# Altium integrated library National Semiconductor Switcher.IntLib: 2226 symbols (part 2 of 59)
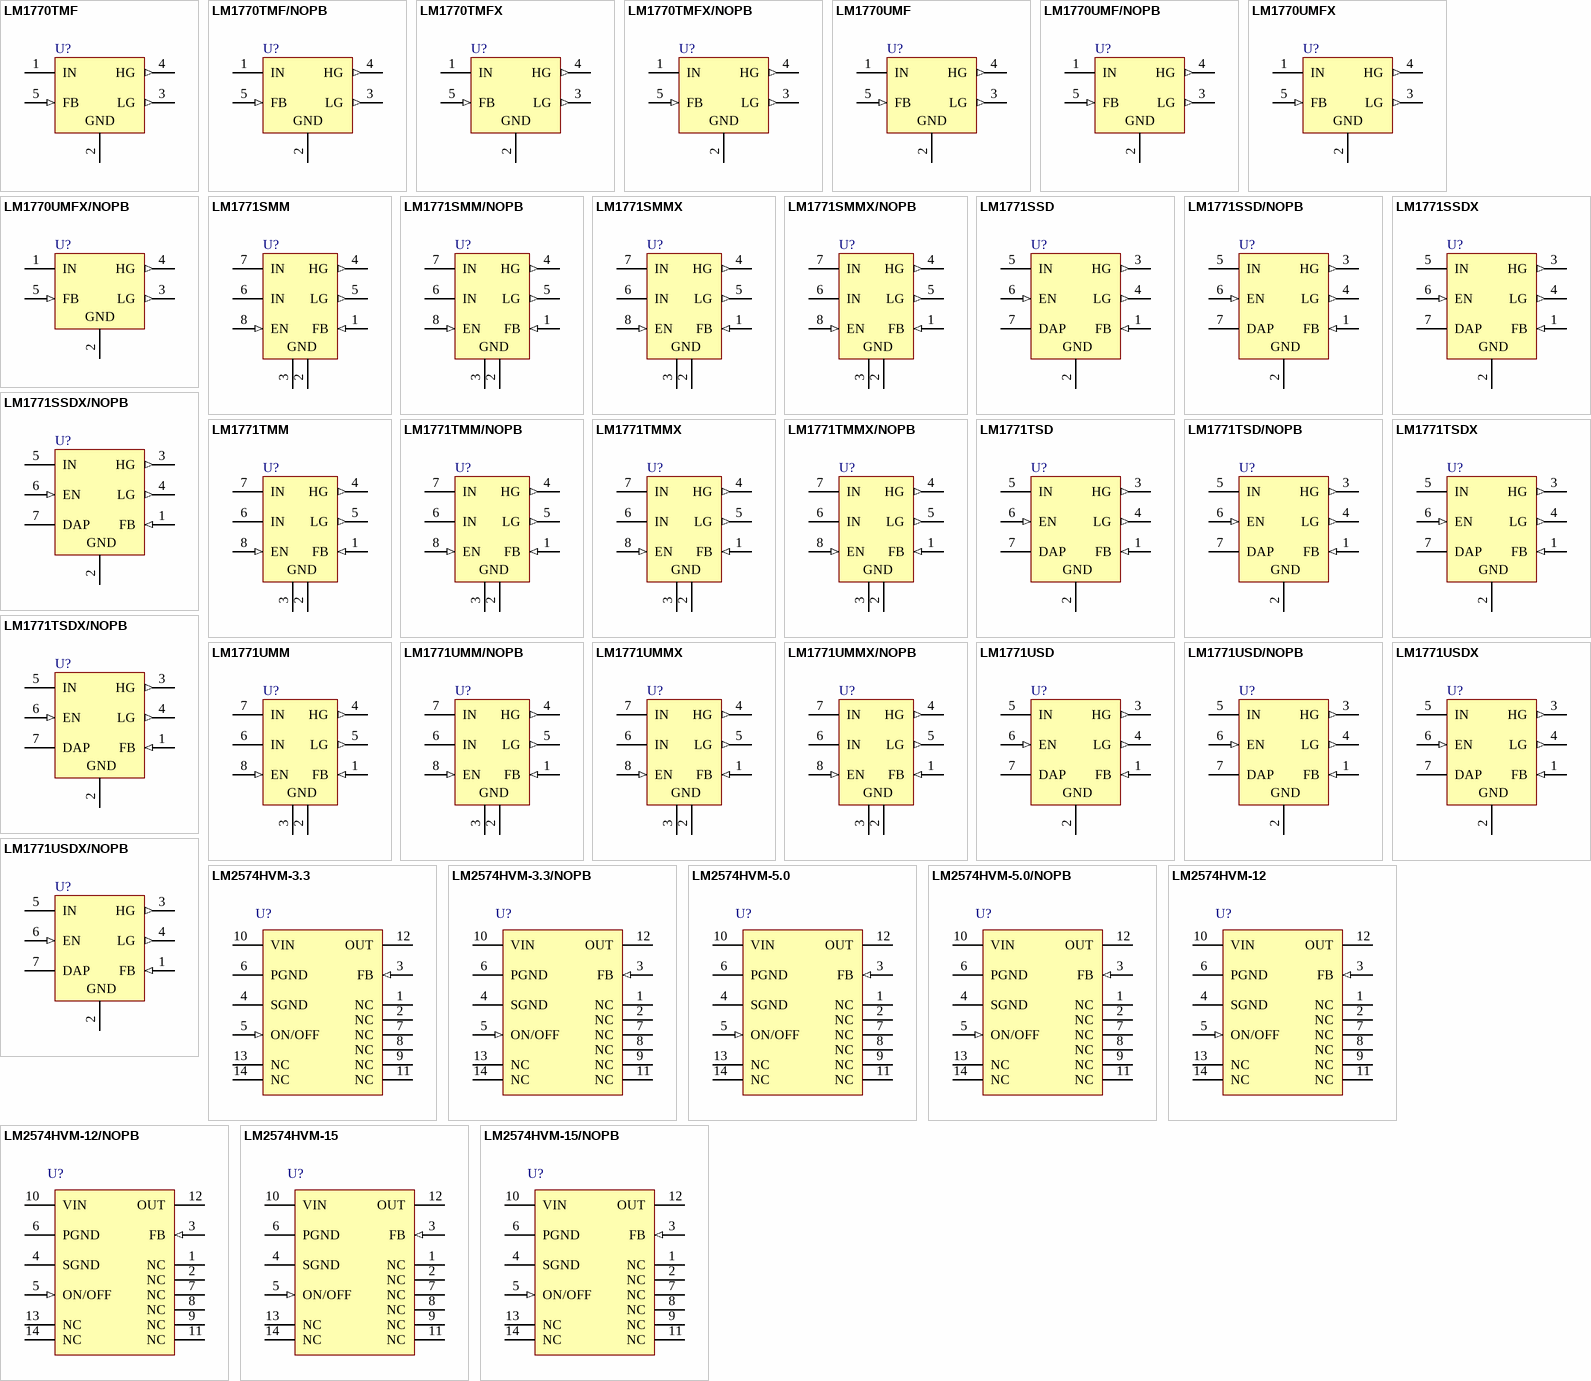
[diagram p70: symbols LM1770TMF to LM2574HVM-15/NOPB]

## LM2574HVM-15/NOPB
designator U?
SIMPLE SWITCHER® 0.5A Step-Down Voltage Regulator, 14-pin Wide SOIC, Pb-Free; PartNumber: LM2574HVM-15/NOPB; Manufacturer: National Semiconductor; PackageTopMarking: NSUZXYTTE#*LM2574HVM*-15 P+; PowerWise: N; High-Reliability: Y; DatasheetVersion: Jun-1999; PackageVersion: revD, Feb-1987; PackageReference: M14B; PackageDescription: Molded Package, S.O., .300in Wide, 14 Lead; RoHS: Y; PinCount: 14; CompType: Switcher; Code_JEDEC: MS-013-AF; Code_IPC: SOIC127P1030-14; ComponentLink1Description: Manufacturer URL; ComponentLink1URL: http://www.national.com/; ComponentLink2Description: LM2574HV Datasheet; ComponentLink2URL: http://www.national.com/ds/LM/LM2574HV.pdf; ComponentLink3Description: LM2574HV Web Page; ComponentLink3URL: http://www.national.com/pf/LM/LM2574HV.html; ComponentLink4Description: M14B Package Page; ComponentLink4URL: http://www.national.com/packaging/folders/m14b.html
footprint M14B_N (SOIC, 14-Leads, Body 9x7.5mm, Pitch 1.27mm, IPC Medium Density)
footprint M14B_L (SOIC, 14-Leads, Body 9x7.5mm, Pitch 1.27mm, IPC High Density)
footprint M14B_M (SOIC, 14-Leads, Body 9x7.5mm, Pitch 1.27mm, IPC Low Density)
pins: 1 NC, 2 NC, 3 FB (in), 4 SGND (power), 5 ON/OFF (in), 6 PGND (power), 7 NC, 8 NC, 9 NC, 10 VIN (power), 11 NC, 12 OUT (power), 13 NC, 14 NC

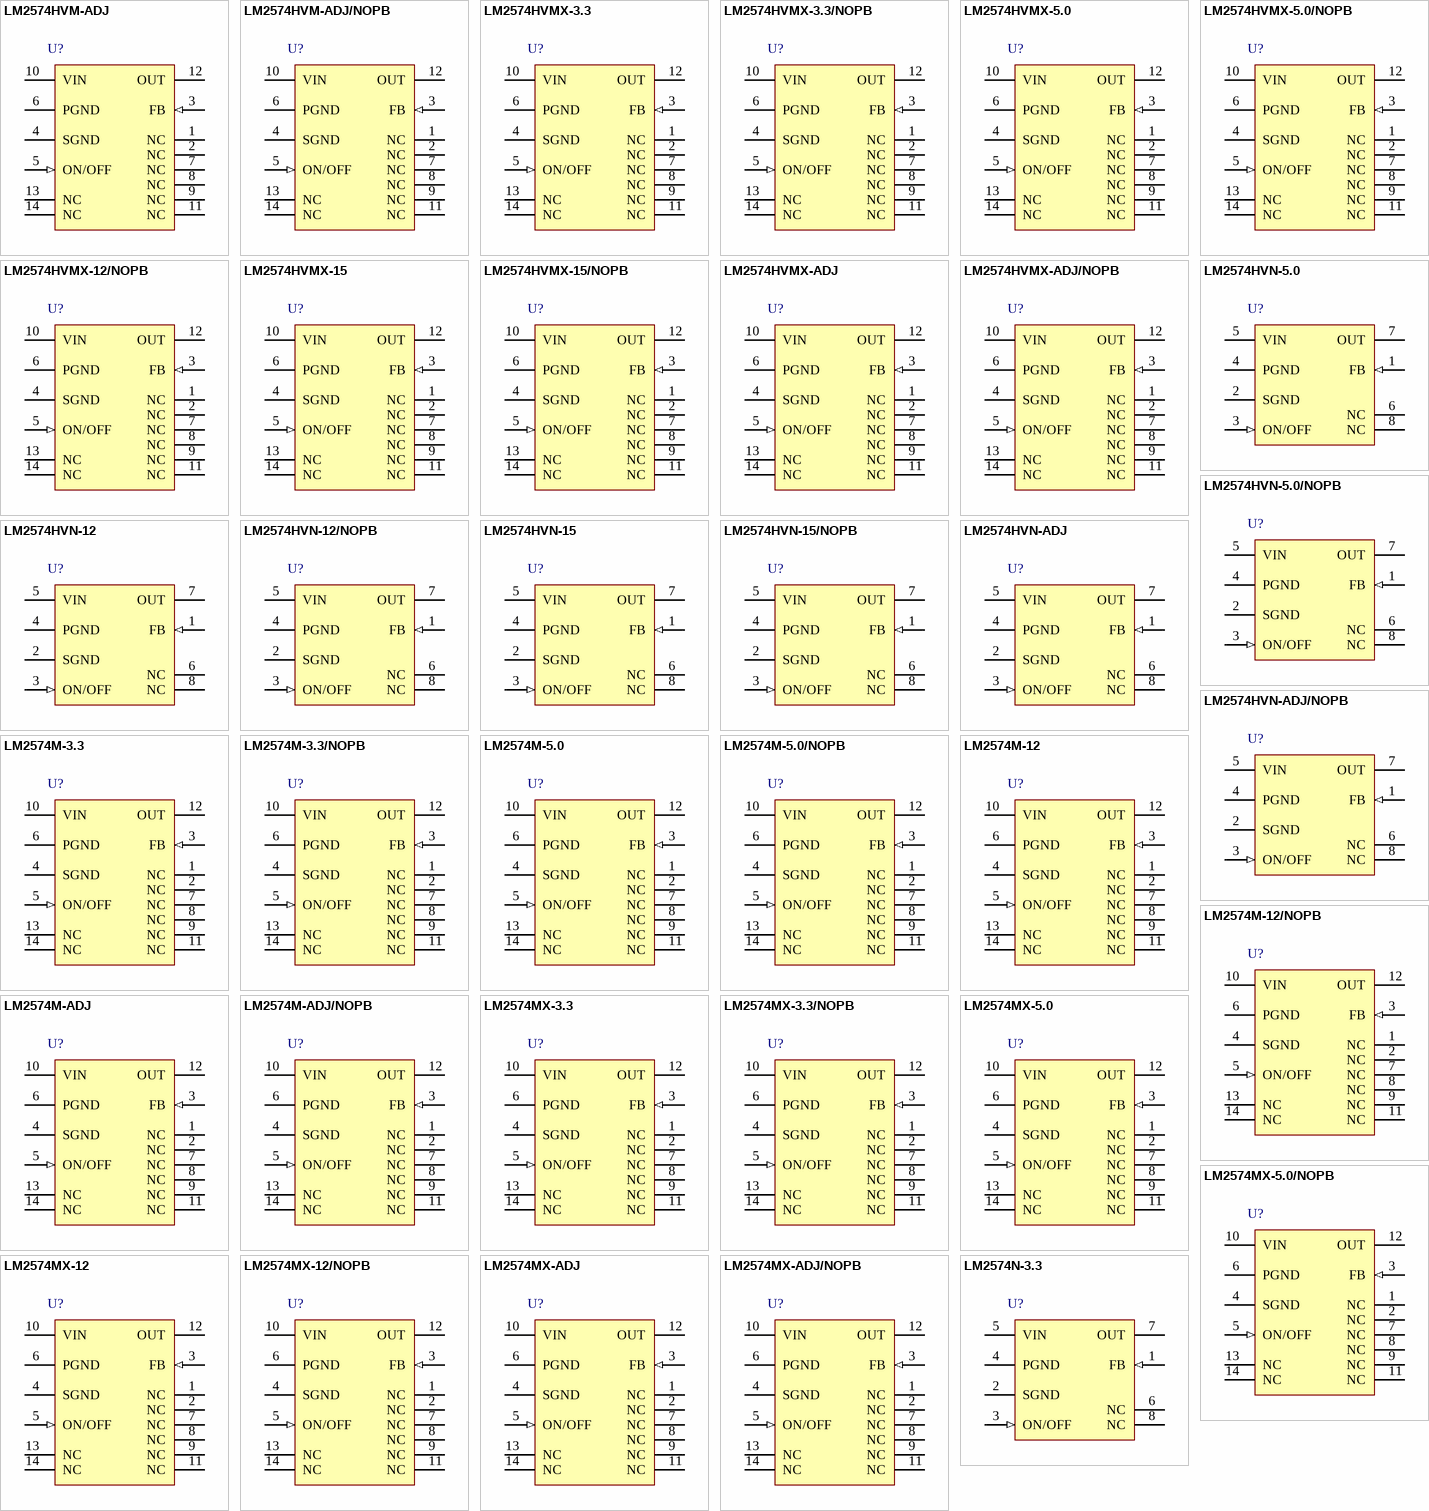
[diagram p1: symbols LM2574HVM-ADJ to LM2574N-3.3]

## LM2574HVM-ADJ
designator U?
SIMPLE SWITCHER® 0.5A Step-Down Voltage Regulator, 14-pin Wide SOIC; PartNumber: LM2574HVM-ADJ; Manufacturer: National Semiconductor; PackageTopMarking: NSUZXYTTE#*LM2574HVM*-ADJ P+; PowerWise: N; High-Reliability: Y; DatasheetVersion: Jun-1999; PackageVersion: revD, Feb-1987; PackageReference: M14B; PackageDescription: Molded Package, S.O., .300in Wide, 14 Lead; RoHS: N; PinCount: 14; CompType: Switcher; Code_JEDEC: MS-013-AF; Code_IPC: SOIC127P1030-14; ComponentLink1Description: Manufacturer URL; ComponentLink1URL: http://www.national.com/; ComponentLink2Description: LM2574HV Datasheet; ComponentLink2URL: http://www.national.com/ds/LM/LM2574HV.pdf; ComponentLink3Description: LM2574HV Web Page; ComponentLink3URL: http://www.national.com/pf/LM/LM2574HV.html; ComponentLink4Description: M14B Package Page; ComponentLink4URL: http://www.national.com/packaging/folders/m14b.html
footprint M14B_N (SOIC, 14-Leads, Body 9x7.5mm, Pitch 1.27mm, IPC Medium Density)
footprint M14B_L (SOIC, 14-Leads, Body 9x7.5mm, Pitch 1.27mm, IPC High Density)
footprint M14B_M (SOIC, 14-Leads, Body 9x7.5mm, Pitch 1.27mm, IPC Low Density)
pins: 1 NC, 2 NC, 3 FB (in), 4 SGND (power), 5 ON/OFF (in), 6 PGND (power), 7 NC, 8 NC, 9 NC, 10 VIN (power), 11 NC, 12 OUT (power), 13 NC, 14 NC

## LM2574HVM-ADJ/NOPB
designator U?
SIMPLE SWITCHER® 0.5A Step-Down Voltage Regulator, 14-pin Wide SOIC, Pb-Free; PartNumber: LM2574HVM-ADJ/NOPB; Manufacturer: National Semiconductor; PackageTopMarking: NSUZXYTTE#*LM2574HVM*-ADJ P+; PowerWise: N; High-Reliability: Y; DatasheetVersion: Jun-1999; PackageVersion: revD, Feb-1987; PackageReference: M14B; PackageDescription: Molded Package, S.O., .300in Wide, 14 Lead; RoHS: Y; PinCount: 14; CompType: Switcher; Code_JEDEC: MS-013-AF; Code_IPC: SOIC127P1030-14; ComponentLink1Description: Manufacturer URL; ComponentLink1URL: http://www.national.com/; ComponentLink2Description: LM2574HV Datasheet; ComponentLink2URL: http://www.national.com/ds/LM/LM2574HV.pdf; ComponentLink3Description: LM2574HV Web Page; ComponentLink3URL: http://www.national.com/pf/LM/LM2574HV.html; ComponentLink4Description: M14B Package Page; ComponentLink4URL: http://www.national.com/packaging/folders/m14b.html
footprint M14B_N (SOIC, 14-Leads, Body 9x7.5mm, Pitch 1.27mm, IPC Medium Density)
footprint M14B_L (SOIC, 14-Leads, Body 9x7.5mm, Pitch 1.27mm, IPC High Density)
footprint M14B_M (SOIC, 14-Leads, Body 9x7.5mm, Pitch 1.27mm, IPC Low Density)
pins: 1 NC, 2 NC, 3 FB (in), 4 SGND (power), 5 ON/OFF (in), 6 PGND (power), 7 NC, 8 NC, 9 NC, 10 VIN (power), 11 NC, 12 OUT (power), 13 NC, 14 NC

## LM2574HVMX-3.3
designator U?
SIMPLE SWITCHER® 0.5A Step-Down Voltage Regulator, 14-pin Wide SOIC; PartNumber: LM2574HVMX-3.3; Manufacturer: National Semiconductor; PackageTopMarking: NSUZXYTTE#*LM2574HVM*-3.3 P+; PowerWise: N; High-Reliability: Y; DatasheetVersion: Jun-1999; PackageVersion: revD, Feb-1987; PackageReference: M14B; PackageDescription: Molded Package, S.O., .300in Wide, 14 Lead; RoHS: N; PinCount: 14; CompType: Switcher; Code_JEDEC: MS-013-AF; Code_IPC: SOIC127P1030-14; ComponentLink1Description: Manufacturer URL; ComponentLink1URL: http://www.national.com/; ComponentLink2Description: LM2574HV Datasheet; ComponentLink2URL: http://www.national.com/ds/LM/LM2574HV.pdf; ComponentLink3Description: LM2574HV Web Page; ComponentLink3URL: http://www.national.com/pf/LM/LM2574HV.html; ComponentLink4Description: M14B Package Page; ComponentLink4URL: http://www.national.com/packaging/folders/m14b.html
footprint M14B_N (SOIC, 14-Leads, Body 9x7.5mm, Pitch 1.27mm, IPC Medium Density)
footprint M14B_L (SOIC, 14-Leads, Body 9x7.5mm, Pitch 1.27mm, IPC High Density)
footprint M14B_M (SOIC, 14-Leads, Body 9x7.5mm, Pitch 1.27mm, IPC Low Density)
pins: 1 NC, 2 NC, 3 FB (in), 4 SGND (power), 5 ON/OFF (in), 6 PGND (power), 7 NC, 8 NC, 9 NC, 10 VIN (power), 11 NC, 12 OUT (power), 13 NC, 14 NC

## LM2574HVMX-3.3/NOPB
designator U?
SIMPLE SWITCHER® 0.5A Step-Down Voltage Regulator, 14-pin Wide SOIC, Pb-Free; PartNumber: LM2574HVMX-3.3/NOPB; Manufacturer: National Semiconductor; PackageTopMarking: NSUZXYTTE#*LM2574HVM*-3.3 P+; PowerWise: N; High-Reliability: Y; DatasheetVersion: Jun-1999; PackageVersion: revD, Feb-1987; PackageReference: M14B; PackageDescription: Molded Package, S.O., .300in Wide, 14 Lead; RoHS: Y; PinCount: 14; CompType: Switcher; Code_JEDEC: MS-013-AF; Code_IPC: SOIC127P1030-14; ComponentLink1Description: Manufacturer URL; ComponentLink1URL: http://www.national.com/; ComponentLink2Description: LM2574HV Datasheet; ComponentLink2URL: http://www.national.com/ds/LM/LM2574HV.pdf; ComponentLink3Description: LM2574HV Web Page; ComponentLink3URL: http://www.national.com/pf/LM/LM2574HV.html; ComponentLink4Description: M14B Package Page; ComponentLink4URL: http://www.national.com/packaging/folders/m14b.html
footprint M14B_N (SOIC, 14-Leads, Body 9x7.5mm, Pitch 1.27mm, IPC Medium Density)
footprint M14B_L (SOIC, 14-Leads, Body 9x7.5mm, Pitch 1.27mm, IPC High Density)
footprint M14B_M (SOIC, 14-Leads, Body 9x7.5mm, Pitch 1.27mm, IPC Low Density)
pins: 1 NC, 2 NC, 3 FB (in), 4 SGND (power), 5 ON/OFF (in), 6 PGND (power), 7 NC, 8 NC, 9 NC, 10 VIN (power), 11 NC, 12 OUT (power), 13 NC, 14 NC

## LM2574HVMX-5.0
designator U?
SIMPLE SWITCHER® 0.5A Step-Down Voltage Regulator, 14-pin Wide SOIC; PartNumber: LM2574HVMX-5.0; Manufacturer: National Semiconductor; PackageTopMarking: NSUZXYTTE#*LM2574HVM*-5.0 P+; PowerWise: N; High-Reliability: Y; DatasheetVersion: Jun-1999; PackageVersion: revD, Feb-1987; PackageReference: M14B; PackageDescription: Molded Package, S.O., .300in Wide, 14 Lead; RoHS: N; PinCount: 14; CompType: Switcher; Code_JEDEC: MS-013-AF; Code_IPC: SOIC127P1030-14; ComponentLink1Description: Manufacturer URL; ComponentLink1URL: http://www.national.com/; ComponentLink2Description: LM2574HV Datasheet; ComponentLink2URL: http://www.national.com/ds/LM/LM2574HV.pdf; ComponentLink3Description: LM2574HV Web Page; ComponentLink3URL: http://www.national.com/pf/LM/LM2574HV.html; ComponentLink4Description: M14B Package Page; ComponentLink4URL: http://www.national.com/packaging/folders/m14b.html
footprint M14B_N (SOIC, 14-Leads, Body 9x7.5mm, Pitch 1.27mm, IPC Medium Density)
footprint M14B_L (SOIC, 14-Leads, Body 9x7.5mm, Pitch 1.27mm, IPC High Density)
footprint M14B_M (SOIC, 14-Leads, Body 9x7.5mm, Pitch 1.27mm, IPC Low Density)
pins: 1 NC, 2 NC, 3 FB (in), 4 SGND (power), 5 ON/OFF (in), 6 PGND (power), 7 NC, 8 NC, 9 NC, 10 VIN (power), 11 NC, 12 OUT (power), 13 NC, 14 NC

## LM2574HVMX-5.0/NOPB
designator U?
SIMPLE SWITCHER® 0.5A Step-Down Voltage Regulator, 14-pin Wide SOIC, Pb-Free; PartNumber: LM2574HVMX-5.0/NOPB; Manufacturer: National Semiconductor; PackageTopMarking: NSUZXYTTE#*LM2574HVM*-5.0 P+; PowerWise: N; High-Reliability: Y; DatasheetVersion: Jun-1999; PackageVersion: revD, Feb-1987; PackageReference: M14B; PackageDescription: Molded Package, S.O., .300in Wide, 14 Lead; RoHS: Y; PinCount: 14; CompType: Switcher; Code_JEDEC: MS-013-AF; Code_IPC: SOIC127P1030-14; ComponentLink1Description: Manufacturer URL; ComponentLink1URL: http://www.national.com/; ComponentLink2Description: LM2574HV Datasheet; ComponentLink2URL: http://www.national.com/ds/LM/LM2574HV.pdf; ComponentLink3Description: LM2574HV Web Page; ComponentLink3URL: http://www.national.com/pf/LM/LM2574HV.html; ComponentLink4Description: M14B Package Page; ComponentLink4URL: http://www.national.com/packaging/folders/m14b.html
footprint M14B_N (SOIC, 14-Leads, Body 9x7.5mm, Pitch 1.27mm, IPC Medium Density)
footprint M14B_L (SOIC, 14-Leads, Body 9x7.5mm, Pitch 1.27mm, IPC High Density)
footprint M14B_M (SOIC, 14-Leads, Body 9x7.5mm, Pitch 1.27mm, IPC Low Density)
pins: 1 NC, 2 NC, 3 FB (in), 4 SGND (power), 5 ON/OFF (in), 6 PGND (power), 7 NC, 8 NC, 9 NC, 10 VIN (power), 11 NC, 12 OUT (power), 13 NC, 14 NC

## LM2574HVMX-12/NOPB
designator U?
SIMPLE SWITCHER® 0.5A Step-Down Voltage Regulator, 14-pin Wide SOIC, Pb-Free; PartNumber: LM2574HVMX-12/NOPB; Manufacturer: National Semiconductor; PackageTopMarking: NSUZXYTTE#*LM2574HVM*-12 P+; PowerWise: N; High-Reliability: Y; DatasheetVersion: Jun-1999; PackageVersion: revD, Feb-1987; PackageReference: M14B; PackageDescription: Molded Package, S.O., .300in Wide, 14 Lead; RoHS: Y; PinCount: 14; CompType: Switcher; Code_JEDEC: MS-013-AF; Code_IPC: SOIC127P1030-14; ComponentLink1Description: Manufacturer URL; ComponentLink1URL: http://www.national.com/; ComponentLink2Description: LM2574HV Datasheet; ComponentLink2URL: http://www.national.com/ds/LM/LM2574HV.pdf; ComponentLink3Description: LM2574HV Web Page; ComponentLink3URL: http://www.national.com/pf/LM/LM2574HV.html; ComponentLink4Description: M14B Package Page; ComponentLink4URL: http://www.national.com/packaging/folders/m14b.html
footprint M14B_N (SOIC, 14-Leads, Body 9x7.5mm, Pitch 1.27mm, IPC Medium Density)
footprint M14B_L (SOIC, 14-Leads, Body 9x7.5mm, Pitch 1.27mm, IPC High Density)
footprint M14B_M (SOIC, 14-Leads, Body 9x7.5mm, Pitch 1.27mm, IPC Low Density)
pins: 1 NC, 2 NC, 3 FB (in), 4 SGND (power), 5 ON/OFF (in), 6 PGND (power), 7 NC, 8 NC, 9 NC, 10 VIN (power), 11 NC, 12 OUT (power), 13 NC, 14 NC

## LM2574HVMX-15
designator U?
SIMPLE SWITCHER® 0.5A Step-Down Voltage Regulator, 14-pin Wide SOIC; PartNumber: LM2574HVMX-15; Manufacturer: National Semiconductor; PackageTopMarking: NSUZXYTTE#*LM2574HVM*-15 P+; PowerWise: N; High-Reliability: Y; DatasheetVersion: Jun-1999; PackageVersion: revD, Feb-1987; PackageReference: M14B; PackageDescription: Molded Package, S.O., .300in Wide, 14 Lead; RoHS: N; PinCount: 14; CompType: Switcher; Code_JEDEC: MS-013-AF; Code_IPC: SOIC127P1030-14; ComponentLink1Description: Manufacturer URL; ComponentLink1URL: http://www.national.com/; ComponentLink2Description: LM2574HV Datasheet; ComponentLink2URL: http://www.national.com/ds/LM/LM2574HV.pdf; ComponentLink3Description: LM2574HV Web Page; ComponentLink3URL: http://www.national.com/pf/LM/LM2574HV.html; ComponentLink4Description: M14B Package Page; ComponentLink4URL: http://www.national.com/packaging/folders/m14b.html
footprint M14B_N (SOIC, 14-Leads, Body 9x7.5mm, Pitch 1.27mm, IPC Medium Density)
footprint M14B_L (SOIC, 14-Leads, Body 9x7.5mm, Pitch 1.27mm, IPC High Density)
footprint M14B_M (SOIC, 14-Leads, Body 9x7.5mm, Pitch 1.27mm, IPC Low Density)
pins: 1 NC, 2 NC, 3 FB (in), 4 SGND (power), 5 ON/OFF (in), 6 PGND (power), 7 NC, 8 NC, 9 NC, 10 VIN (power), 11 NC, 12 OUT (power), 13 NC, 14 NC

## LM2574HVMX-15/NOPB
designator U?
SIMPLE SWITCHER® 0.5A Step-Down Voltage Regulator, 14-pin Wide SOIC, Pb-Free; PartNumber: LM2574HVMX-15/NOPB; Manufacturer: National Semiconductor; PackageTopMarking: NSUZXYTTE#*LM2574HVM*-15 P+; PowerWise: N; High-Reliability: Y; DatasheetVersion: Jun-1999; PackageVersion: revD, Feb-1987; PackageReference: M14B; PackageDescription: Molded Package, S.O., .300in Wide, 14 Lead; RoHS: Y; PinCount: 14; CompType: Switcher; Code_JEDEC: MS-013-AF; Code_IPC: SOIC127P1030-14; ComponentLink1Description: Manufacturer URL; ComponentLink1URL: http://www.national.com/; ComponentLink2Description: LM2574HV Datasheet; ComponentLink2URL: http://www.national.com/ds/LM/LM2574HV.pdf; ComponentLink3Description: LM2574HV Web Page; ComponentLink3URL: http://www.national.com/pf/LM/LM2574HV.html; ComponentLink4Description: M14B Package Page; ComponentLink4URL: http://www.national.com/packaging/folders/m14b.html
footprint M14B_N (SOIC, 14-Leads, Body 9x7.5mm, Pitch 1.27mm, IPC Medium Density)
footprint M14B_L (SOIC, 14-Leads, Body 9x7.5mm, Pitch 1.27mm, IPC High Density)
footprint M14B_M (SOIC, 14-Leads, Body 9x7.5mm, Pitch 1.27mm, IPC Low Density)
pins: 1 NC, 2 NC, 3 FB (in), 4 SGND (power), 5 ON/OFF (in), 6 PGND (power), 7 NC, 8 NC, 9 NC, 10 VIN (power), 11 NC, 12 OUT (power), 13 NC, 14 NC

## LM2574HVMX-ADJ
designator U?
SIMPLE SWITCHER® 0.5A Step-Down Voltage Regulator, 14-pin Wide SOIC; PartNumber: LM2574HVMX-ADJ; Manufacturer: National Semiconductor; PackageTopMarking: NSUZXYTTE#*LM2574HVM*-ADJ P+; PowerWise: N; High-Reliability: Y; DatasheetVersion: Jun-1999; PackageVersion: revD, Feb-1987; PackageReference: M14B; PackageDescription: Molded Package, S.O., .300in Wide, 14 Lead; RoHS: N; PinCount: 14; CompType: Switcher; Code_JEDEC: MS-013-AF; Code_IPC: SOIC127P1030-14; ComponentLink1Description: Manufacturer URL; ComponentLink1URL: http://www.national.com/; ComponentLink2Description: LM2574HV Datasheet; ComponentLink2URL: http://www.national.com/ds/LM/LM2574HV.pdf; ComponentLink3Description: LM2574HV Web Page; ComponentLink3URL: http://www.national.com/pf/LM/LM2574HV.html; ComponentLink4Description: M14B Package Page; ComponentLink4URL: http://www.national.com/packaging/folders/m14b.html
footprint M14B_N (SOIC, 14-Leads, Body 9x7.5mm, Pitch 1.27mm, IPC Medium Density)
footprint M14B_L (SOIC, 14-Leads, Body 9x7.5mm, Pitch 1.27mm, IPC High Density)
footprint M14B_M (SOIC, 14-Leads, Body 9x7.5mm, Pitch 1.27mm, IPC Low Density)
pins: 1 NC, 2 NC, 3 FB (in), 4 SGND (power), 5 ON/OFF (in), 6 PGND (power), 7 NC, 8 NC, 9 NC, 10 VIN (power), 11 NC, 12 OUT (power), 13 NC, 14 NC

## LM2574HVMX-ADJ/NOPB
designator U?
SIMPLE SWITCHER® 0.5A Step-Down Voltage Regulator, 14-pin Wide SOIC, Pb-Free; PartNumber: LM2574HVMX-ADJ/NOPB; Manufacturer: National Semiconductor; PackageTopMarking: NSUZXYTTE#*LM2574HVM*-ADJ P+; PowerWise: N; High-Reliability: Y; DatasheetVersion: Jun-1999; PackageVersion: revD, Feb-1987; PackageReference: M14B; PackageDescription: Molded Package, S.O., .300in Wide, 14 Lead; RoHS: Y; PinCount: 14; CompType: Switcher; Code_JEDEC: MS-013-AF; Code_IPC: SOIC127P1030-14; ComponentLink1Description: Manufacturer URL; ComponentLink1URL: http://www.national.com/; ComponentLink2Description: LM2574HV Datasheet; ComponentLink2URL: http://www.national.com/ds/LM/LM2574HV.pdf; ComponentLink3Description: LM2574HV Web Page; ComponentLink3URL: http://www.national.com/pf/LM/LM2574HV.html; ComponentLink4Description: M14B Package Page; ComponentLink4URL: http://www.national.com/packaging/folders/m14b.html
footprint M14B_N (SOIC, 14-Leads, Body 9x7.5mm, Pitch 1.27mm, IPC Medium Density)
footprint M14B_L (SOIC, 14-Leads, Body 9x7.5mm, Pitch 1.27mm, IPC High Density)
footprint M14B_M (SOIC, 14-Leads, Body 9x7.5mm, Pitch 1.27mm, IPC Low Density)
pins: 1 NC, 2 NC, 3 FB (in), 4 SGND (power), 5 ON/OFF (in), 6 PGND (power), 7 NC, 8 NC, 9 NC, 10 VIN (power), 11 NC, 12 OUT (power), 13 NC, 14 NC

## LM2574HVN-5.0
designator U?
SIMPLE SWITCHER® 0.5A Step-Down Voltage Regulator, 8-pin MDIP; PartNumber: LM2574HVN-5.0; Manufacturer: National Semiconductor; PackageTopMarking: NSUZXYTTE#*LM2574HVN*-5.0 P+; PowerWise: N; High-Reliability: Y; DatasheetVersion: Jun-1999; PackageVersion: revG, May-2006; PackageReference: N08E; PackageDescription: MDIP, .365 x .250 x .130in, 8 Lead, .100in Pitch; RoHS: N; PinCount: 8; CompType: Switcher; Code_JEDEC: MS-001-BA; ComponentLink1Description: Manufacturer URL; ComponentLink1URL: http://www.national.com/; ComponentLink2Description: LM2574HV Datasheet; ComponentLink2URL: http://www.national.com/ds/LM/LM2574HV.pdf; ComponentLink3Description: LM2574HV Web Page; ComponentLink3URL: http://www.national.com/pf/LM/LM2574HV.html; ComponentLink4Description: N08E Package Page; ComponentLink4URL: http://www.national.com/packaging/folders/n08e.html
footprint N08E (DIP, 8-Leads, Row Spacing 7.62mm, Pitch 2.54mm, Body 9.91x6.35mm)
pins: 1 FB (in), 2 SGND (power), 3 ON/OFF (in), 4 PGND (power), 5 VIN (power), 6 NC, 7 OUT (power), 8 NC

## LM2574HVN-5.0/NOPB
designator U?
SIMPLE SWITCHER® 0.5A Step-Down Voltage Regulator, 8-pin MDIP, Pb-Free; PartNumber: LM2574HVN-5.0/NOPB; Manufacturer: National Semiconductor; PackageTopMarking: NSUZXYTTE#*LM2574HVN*-5.0 P+; PowerWise: N; High-Reliability: Y; DatasheetVersion: Jun-1999; PackageVersion: revG, May-2006; PackageReference: N08E; PackageDescription: MDIP, .365 x .250 x .130in, 8 Lead, .100in Pitch; RoHS: Y; PinCount: 8; CompType: Switcher; Code_JEDEC: MS-001-BA; ComponentLink1Description: Manufacturer URL; ComponentLink1URL: http://www.national.com/; ComponentLink2Description: LM2574HV Datasheet; ComponentLink2URL: http://www.national.com/ds/LM/LM2574HV.pdf; ComponentLink3Description: LM2574HV Web Page; ComponentLink3URL: http://www.national.com/pf/LM/LM2574HV.html; ComponentLink4Description: N08E Package Page; ComponentLink4URL: http://www.national.com/packaging/folders/n08e.html
footprint N08E (DIP, 8-Leads, Row Spacing 7.62mm, Pitch 2.54mm, Body 9.91x6.35mm)
pins: 1 FB (in), 2 SGND (power), 3 ON/OFF (in), 4 PGND (power), 5 VIN (power), 6 NC, 7 OUT (power), 8 NC

## LM2574HVN-12
designator U?
SIMPLE SWITCHER® 0.5A Step-Down Voltage Regulator, 8-pin MDIP; PartNumber: LM2574HVN-12; Manufacturer: National Semiconductor; PackageTopMarking: NSUZXYTTE#*LM2574HVN*-12 P+; PowerWise: N; High-Reliability: Y; DatasheetVersion: Jun-1999; PackageVersion: revG, May-2006; PackageReference: N08E; PackageDescription: MDIP, .365 x .250 x .130in, 8 Lead, .100in Pitch; RoHS: N; PinCount: 8; CompType: Switcher; Code_JEDEC: MS-001-BA; ComponentLink1Description: Manufacturer URL; ComponentLink1URL: http://www.national.com/; ComponentLink2Description: LM2574HV Datasheet; ComponentLink2URL: http://www.national.com/ds/LM/LM2574HV.pdf; ComponentLink3Description: LM2574HV Web Page; ComponentLink3URL: http://www.national.com/pf/LM/LM2574HV.html; ComponentLink4Description: N08E Package Page; ComponentLink4URL: http://www.national.com/packaging/folders/n08e.html
footprint N08E (DIP, 8-Leads, Row Spacing 7.62mm, Pitch 2.54mm, Body 9.91x6.35mm)
pins: 1 FB (in), 2 SGND (power), 3 ON/OFF (in), 4 PGND (power), 5 VIN (power), 6 NC, 7 OUT (power), 8 NC

## LM2574HVN-12/NOPB
designator U?
SIMPLE SWITCHER® 0.5A Step-Down Voltage Regulator, 8-pin MDIP, Pb-Free; PartNumber: LM2574HVN-12/NOPB; Manufacturer: National Semiconductor; PackageTopMarking: NSUZXYTTE#*LM2574HVN*-12 P+; PowerWise: N; High-Reliability: Y; DatasheetVersion: Jun-1999; PackageVersion: revG, May-2006; PackageReference: N08E; PackageDescription: MDIP, .365 x .250 x .130in, 8 Lead, .100in Pitch; RoHS: Y; PinCount: 8; CompType: Switcher; Code_JEDEC: MS-001-BA; ComponentLink1Description: Manufacturer URL; ComponentLink1URL: http://www.national.com/; ComponentLink2Description: LM2574HV Datasheet; ComponentLink2URL: http://www.national.com/ds/LM/LM2574HV.pdf; ComponentLink3Description: LM2574HV Web Page; ComponentLink3URL: http://www.national.com/pf/LM/LM2574HV.html; ComponentLink4Description: N08E Package Page; ComponentLink4URL: http://www.national.com/packaging/folders/n08e.html
footprint N08E (DIP, 8-Leads, Row Spacing 7.62mm, Pitch 2.54mm, Body 9.91x6.35mm)
pins: 1 FB (in), 2 SGND (power), 3 ON/OFF (in), 4 PGND (power), 5 VIN (power), 6 NC, 7 OUT (power), 8 NC

## LM2574HVN-15
designator U?
SIMPLE SWITCHER® 0.5A Step-Down Voltage Regulator, 8-pin MDIP; PartNumber: LM2574HVN-15; Manufacturer: National Semiconductor; PackageTopMarking: NSUZXYTTE#*LM2574HVN*-15 P+; PowerWise: N; High-Reliability: Y; DatasheetVersion: Jun-1999; PackageVersion: revG, May-2006; PackageReference: N08E; PackageDescription: MDIP, .365 x .250 x .130in, 8 Lead, .100in Pitch; RoHS: N; PinCount: 8; CompType: Switcher; Code_JEDEC: MS-001-BA; ComponentLink1Description: Manufacturer URL; ComponentLink1URL: http://www.national.com/; ComponentLink2Description: LM2574HV Datasheet; ComponentLink2URL: http://www.national.com/ds/LM/LM2574HV.pdf; ComponentLink3Description: LM2574HV Web Page; ComponentLink3URL: http://www.national.com/pf/LM/LM2574HV.html; ComponentLink4Description: N08E Package Page; ComponentLink4URL: http://www.national.com/packaging/folders/n08e.html
footprint N08E (DIP, 8-Leads, Row Spacing 7.62mm, Pitch 2.54mm, Body 9.91x6.35mm)
pins: 1 FB (in), 2 SGND (power), 3 ON/OFF (in), 4 PGND (power), 5 VIN (power), 6 NC, 7 OUT (power), 8 NC

## LM2574HVN-15/NOPB
designator U?
SIMPLE SWITCHER® 0.5A Step-Down Voltage Regulator, 8-pin MDIP, Pb-Free; PartNumber: LM2574HVN-15/NOPB; Manufacturer: National Semiconductor; PackageTopMarking: NSUZXYTTE#*LM2574HVN*-15 P+; PowerWise: N; High-Reliability: Y; DatasheetVersion: Jun-1999; PackageVersion: revG, May-2006; PackageReference: N08E; PackageDescription: MDIP, .365 x .250 x .130in, 8 Lead, .100in Pitch; RoHS: Y; PinCount: 8; CompType: Switcher; Code_JEDEC: MS-001-BA; ComponentLink1Description: Manufacturer URL; ComponentLink1URL: http://www.national.com/; ComponentLink2Description: LM2574HV Datasheet; ComponentLink2URL: http://www.national.com/ds/LM/LM2574HV.pdf; ComponentLink3Description: LM2574HV Web Page; ComponentLink3URL: http://www.national.com/pf/LM/LM2574HV.html; ComponentLink4Description: N08E Package Page; ComponentLink4URL: http://www.national.com/packaging/folders/n08e.html
footprint N08E (DIP, 8-Leads, Row Spacing 7.62mm, Pitch 2.54mm, Body 9.91x6.35mm)
pins: 1 FB (in), 2 SGND (power), 3 ON/OFF (in), 4 PGND (power), 5 VIN (power), 6 NC, 7 OUT (power), 8 NC

## LM2574HVN-ADJ
designator U?
SIMPLE SWITCHER® 0.5A Step-Down Voltage Regulator, 8-pin MDIP; PartNumber: LM2574HVN-ADJ; Manufacturer: National Semiconductor; PackageTopMarking: NSUZXYTTE#*LM2574HVN*-ADJ P+; PowerWise: N; High-Reliability: Y; DatasheetVersion: Jun-1999; PackageVersion: revG, May-2006; PackageReference: N08E; PackageDescription: MDIP, .365 x .250 x .130in, 8 Lead, .100in Pitch; RoHS: N; PinCount: 8; CompType: Switcher; Code_JEDEC: MS-001-BA; ComponentLink1Description: Manufacturer URL; ComponentLink1URL: http://www.national.com/; ComponentLink2Description: LM2574HV Datasheet; ComponentLink2URL: http://www.national.com/ds/LM/LM2574HV.pdf; ComponentLink3Description: LM2574HV Web Page; ComponentLink3URL: http://www.national.com/pf/LM/LM2574HV.html; ComponentLink4Description: N08E Package Page; ComponentLink4URL: http://www.national.com/packaging/folders/n08e.html
footprint N08E (DIP, 8-Leads, Row Spacing 7.62mm, Pitch 2.54mm, Body 9.91x6.35mm)
pins: 1 FB (in), 2 SGND (power), 3 ON/OFF (in), 4 PGND (power), 5 VIN (power), 6 NC, 7 OUT (power), 8 NC

## LM2574HVN-ADJ/NOPB
designator U?
SIMPLE SWITCHER® 0.5A Step-Down Voltage Regulator, 8-pin MDIP, Pb-Free; PartNumber: LM2574HVN-ADJ/NOPB; Manufacturer: National Semiconductor; PackageTopMarking: NSUZXYTTE#*LM2574HVN*-ADJ P+; PowerWise: N; High-Reliability: Y; DatasheetVersion: Jun-1999; PackageVersion: revG, May-2006; PackageReference: N08E; PackageDescription: MDIP, .365 x .250 x .130in, 8 Lead, .100in Pitch; RoHS: Y; PinCount: 8; CompType: Switcher; Code_JEDEC: MS-001-BA; ComponentLink1Description: Manufacturer URL; ComponentLink1URL: http://www.national.com/; ComponentLink2Description: LM2574HV Datasheet; ComponentLink2URL: http://www.national.com/ds/LM/LM2574HV.pdf; ComponentLink3Description: LM2574HV Web Page; ComponentLink3URL: http://www.national.com/pf/LM/LM2574HV.html; ComponentLink4Description: N08E Package Page; ComponentLink4URL: http://www.national.com/packaging/folders/n08e.html
footprint N08E (DIP, 8-Leads, Row Spacing 7.62mm, Pitch 2.54mm, Body 9.91x6.35mm)
pins: 1 FB (in), 2 SGND (power), 3 ON/OFF (in), 4 PGND (power), 5 VIN (power), 6 NC, 7 OUT (power), 8 NC

## LM2574M-3.3
designator U?
SIMPLE SWITCHER® 0.5A Step-Down Voltage Regulator, 14-pin Wide SOIC; PartNumber: LM2574M-3.3; Manufacturer: National Semiconductor; PackageTopMarking: NSUZXYTTE#*LM2574M*-3.3 P+; PowerWise: N; High-Reliability: Y; DatasheetVersion: Jun-1999; PackageVersion: revD, Feb-1987; PackageReference: M14B; PackageDescription: Molded Package, S.O., .300in Wide, 14 Lead; RoHS: N; PinCount: 14; CompType: Switcher; Code_JEDEC: MS-013-AF; Code_IPC: SOIC127P1030-14; ComponentLink1Description: Manufacturer URL; ComponentLink1URL: http://www.national.com/; ComponentLink2Description: LM2574 Datasheet; ComponentLink2URL: http://www.national.com/ds/LM/LM2574.pdf; ComponentLink3Description: LM2574 Web Page; ComponentLink3URL: http://www.national.com/pf/LM/LM2574.html; ComponentLink4Description: M14B Package Page; ComponentLink4URL: http://www.national.com/packaging/folders/m14b.html
footprint M14B_N (SOIC, 14-Leads, Body 9x7.5mm, Pitch 1.27mm, IPC Medium Density)
footprint M14B_L (SOIC, 14-Leads, Body 9x7.5mm, Pitch 1.27mm, IPC High Density)
footprint M14B_M (SOIC, 14-Leads, Body 9x7.5mm, Pitch 1.27mm, IPC Low Density)
pins: 1 NC, 2 NC, 3 FB (in), 4 SGND (power), 5 ON/OFF (in), 6 PGND (power), 7 NC, 8 NC, 9 NC, 10 VIN (power), 11 NC, 12 OUT (power), 13 NC, 14 NC

## LM2574M-3.3/NOPB
designator U?
SIMPLE SWITCHER® 0.5A Step-Down Voltage Regulator, 14-pin Wide SOIC, Pb-Free; PartNumber: LM2574M-3.3/NOPB; Manufacturer: National Semiconductor; PackageTopMarking: NSUZXYTTE#*LM2574M*-3.3 P+; PowerWise: N; High-Reliability: Y; DatasheetVersion: Jun-1999; PackageVersion: revD, Feb-1987; PackageReference: M14B; PackageDescription: Molded Package, S.O., .300in Wide, 14 Lead; RoHS: Y; PinCount: 14; CompType: Switcher; Code_JEDEC: MS-013-AF; Code_IPC: SOIC127P1030-14; ComponentLink1Description: Manufacturer URL; ComponentLink1URL: http://www.national.com/; ComponentLink2Description: LM2574 Datasheet; ComponentLink2URL: http://www.national.com/ds/LM/LM2574.pdf; ComponentLink3Description: LM2574 Web Page; ComponentLink3URL: http://www.national.com/pf/LM/LM2574.html; ComponentLink4Description: M14B Package Page; ComponentLink4URL: http://www.national.com/packaging/folders/m14b.html
footprint M14B_N (SOIC, 14-Leads, Body 9x7.5mm, Pitch 1.27mm, IPC Medium Density)
footprint M14B_L (SOIC, 14-Leads, Body 9x7.5mm, Pitch 1.27mm, IPC High Density)
footprint M14B_M (SOIC, 14-Leads, Body 9x7.5mm, Pitch 1.27mm, IPC Low Density)
pins: 1 NC, 2 NC, 3 FB (in), 4 SGND (power), 5 ON/OFF (in), 6 PGND (power), 7 NC, 8 NC, 9 NC, 10 VIN (power), 11 NC, 12 OUT (power), 13 NC, 14 NC

## LM2574M-5.0
designator U?
SIMPLE SWITCHER® 0.5A Step-Down Voltage Regulator, 14-pin Wide SOIC; PartNumber: LM2574M-5.0; Manufacturer: National Semiconductor; PackageTopMarking: NSUZXYTTE#*LM2574M*-5.0 P+; PowerWise: N; High-Reliability: Y; DatasheetVersion: Jun-1999; PackageVersion: revD, Feb-1987; PackageReference: M14B; PackageDescription: Molded Package, S.O., .300in Wide, 14 Lead; RoHS: N; PinCount: 14; CompType: Switcher; Code_JEDEC: MS-013-AF; Code_IPC: SOIC127P1030-14; ComponentLink1Description: Manufacturer URL; ComponentLink1URL: http://www.national.com/; ComponentLink2Description: LM2574 Datasheet; ComponentLink2URL: http://www.national.com/ds/LM/LM2574.pdf; ComponentLink3Description: LM2574 Web Page; ComponentLink3URL: http://www.national.com/pf/LM/LM2574.html; ComponentLink4Description: M14B Package Page; ComponentLink4URL: http://www.national.com/packaging/folders/m14b.html
footprint M14B_N (SOIC, 14-Leads, Body 9x7.5mm, Pitch 1.27mm, IPC Medium Density)
footprint M14B_L (SOIC, 14-Leads, Body 9x7.5mm, Pitch 1.27mm, IPC High Density)
footprint M14B_M (SOIC, 14-Leads, Body 9x7.5mm, Pitch 1.27mm, IPC Low Density)
pins: 1 NC, 2 NC, 3 FB (in), 4 SGND (power), 5 ON/OFF (in), 6 PGND (power), 7 NC, 8 NC, 9 NC, 10 VIN (power), 11 NC, 12 OUT (power), 13 NC, 14 NC

## LM2574M-5.0/NOPB
designator U?
SIMPLE SWITCHER® 0.5A Step-Down Voltage Regulator, 14-pin Wide SOIC, Pb-Free; PartNumber: LM2574M-5.0/NOPB; Manufacturer: National Semiconductor; PackageTopMarking: NSUZXYTTE#*LM2574M*-5.0 P+; PowerWise: N; High-Reliability: Y; DatasheetVersion: Jun-1999; PackageVersion: revD, Feb-1987; PackageReference: M14B; PackageDescription: Molded Package, S.O., .300in Wide, 14 Lead; RoHS: Y; PinCount: 14; CompType: Switcher; Code_JEDEC: MS-013-AF; Code_IPC: SOIC127P1030-14; ComponentLink1Description: Manufacturer URL; ComponentLink1URL: http://www.national.com/; ComponentLink2Description: LM2574 Datasheet; ComponentLink2URL: http://www.national.com/ds/LM/LM2574.pdf; ComponentLink3Description: LM2574 Web Page; ComponentLink3URL: http://www.national.com/pf/LM/LM2574.html; ComponentLink4Description: M14B Package Page; ComponentLink4URL: http://www.national.com/packaging/folders/m14b.html
footprint M14B_N (SOIC, 14-Leads, Body 9x7.5mm, Pitch 1.27mm, IPC Medium Density)
footprint M14B_L (SOIC, 14-Leads, Body 9x7.5mm, Pitch 1.27mm, IPC High Density)
footprint M14B_M (SOIC, 14-Leads, Body 9x7.5mm, Pitch 1.27mm, IPC Low Density)
pins: 1 NC, 2 NC, 3 FB (in), 4 SGND (power), 5 ON/OFF (in), 6 PGND (power), 7 NC, 8 NC, 9 NC, 10 VIN (power), 11 NC, 12 OUT (power), 13 NC, 14 NC

## LM2574M-12
designator U?
SIMPLE SWITCHER® 0.5A Step-Down Voltage Regulator, 14-pin Wide SOIC; PartNumber: LM2574M-12; Manufacturer: National Semiconductor; PackageTopMarking: NSUZXYTTE#*LM2574M*-12 P+; PowerWise: N; High-Reliability: Y; DatasheetVersion: Jun-1999; PackageVersion: revD, Feb-1987; PackageReference: M14B; PackageDescription: Molded Package, S.O., .300in Wide, 14 Lead; RoHS: N; PinCount: 14; CompType: Switcher; Code_JEDEC: MS-013-AF; Code_IPC: SOIC127P1030-14; ComponentLink1Description: Manufacturer URL; ComponentLink1URL: http://www.national.com/; ComponentLink2Description: LM2574 Datasheet; ComponentLink2URL: http://www.national.com/ds/LM/LM2574.pdf; ComponentLink3Description: LM2574 Web Page; ComponentLink3URL: http://www.national.com/pf/LM/LM2574.html; ComponentLink4Description: M14B Package Page; ComponentLink4URL: http://www.national.com/packaging/folders/m14b.html
footprint M14B_N (SOIC, 14-Leads, Body 9x7.5mm, Pitch 1.27mm, IPC Medium Density)
footprint M14B_L (SOIC, 14-Leads, Body 9x7.5mm, Pitch 1.27mm, IPC High Density)
footprint M14B_M (SOIC, 14-Leads, Body 9x7.5mm, Pitch 1.27mm, IPC Low Density)
pins: 1 NC, 2 NC, 3 FB (in), 4 SGND (power), 5 ON/OFF (in), 6 PGND (power), 7 NC, 8 NC, 9 NC, 10 VIN (power), 11 NC, 12 OUT (power), 13 NC, 14 NC

## LM2574M-12/NOPB
designator U?
SIMPLE SWITCHER® 0.5A Step-Down Voltage Regulator, 14-pin Wide SOIC, Pb-Free; PartNumber: LM2574M-12/NOPB; Manufacturer: National Semiconductor; PackageTopMarking: NSUZXYTTE#*LM2574M*-12 P+; PowerWise: N; High-Reliability: Y; DatasheetVersion: Jun-1999; PackageVersion: revD, Feb-1987; PackageReference: M14B; PackageDescription: Molded Package, S.O., .300in Wide, 14 Lead; RoHS: Y; PinCount: 14; CompType: Switcher; Code_JEDEC: MS-013-AF; Code_IPC: SOIC127P1030-14; ComponentLink1Description: Manufacturer URL; ComponentLink1URL: http://www.national.com/; ComponentLink2Description: LM2574 Datasheet; ComponentLink2URL: http://www.national.com/ds/LM/LM2574.pdf; ComponentLink3Description: LM2574 Web Page; ComponentLink3URL: http://www.national.com/pf/LM/LM2574.html; ComponentLink4Description: M14B Package Page; ComponentLink4URL: http://www.national.com/packaging/folders/m14b.html
footprint M14B_N (SOIC, 14-Leads, Body 9x7.5mm, Pitch 1.27mm, IPC Medium Density)
footprint M14B_L (SOIC, 14-Leads, Body 9x7.5mm, Pitch 1.27mm, IPC High Density)
footprint M14B_M (SOIC, 14-Leads, Body 9x7.5mm, Pitch 1.27mm, IPC Low Density)
pins: 1 NC, 2 NC, 3 FB (in), 4 SGND (power), 5 ON/OFF (in), 6 PGND (power), 7 NC, 8 NC, 9 NC, 10 VIN (power), 11 NC, 12 OUT (power), 13 NC, 14 NC

## LM2574M-ADJ
designator U?
SIMPLE SWITCHER® 0.5A Step-Down Voltage Regulator, 14-pin Wide SOIC; PartNumber: LM2574M-ADJ; Manufacturer: National Semiconductor; PackageTopMarking: NSUZXYTTE#*LM2574M*-ADJ P+; PowerWise: N; High-Reliability: Y; DatasheetVersion: Jun-1999; PackageVersion: revD, Feb-1987; PackageReference: M14B; PackageDescription: Molded Package, S.O., .300in Wide, 14 Lead; RoHS: N; PinCount: 14; CompType: Switcher; Code_JEDEC: MS-013-AF; Code_IPC: SOIC127P1030-14; ComponentLink1Description: Manufacturer URL; ComponentLink1URL: http://www.national.com/; ComponentLink2Description: LM2574 Datasheet; ComponentLink2URL: http://www.national.com/ds/LM/LM2574.pdf; ComponentLink3Description: LM2574 Web Page; ComponentLink3URL: http://www.national.com/pf/LM/LM2574.html; ComponentLink4Description: M14B Package Page; ComponentLink4URL: http://www.national.com/packaging/folders/m14b.html
footprint M14B_N (SOIC, 14-Leads, Body 9x7.5mm, Pitch 1.27mm, IPC Medium Density)
footprint M14B_L (SOIC, 14-Leads, Body 9x7.5mm, Pitch 1.27mm, IPC High Density)
footprint M14B_M (SOIC, 14-Leads, Body 9x7.5mm, Pitch 1.27mm, IPC Low Density)
pins: 1 NC, 2 NC, 3 FB (in), 4 SGND (power), 5 ON/OFF (in), 6 PGND (power), 7 NC, 8 NC, 9 NC, 10 VIN (power), 11 NC, 12 OUT (power), 13 NC, 14 NC

## LM2574M-ADJ/NOPB
designator U?
SIMPLE SWITCHER® 0.5A Step-Down Voltage Regulator, 14-pin Wide SOIC, Pb-Free; PartNumber: LM2574M-ADJ/NOPB; Manufacturer: National Semiconductor; PackageTopMarking: NSUZXYTTE#*LM2574M*-ADJ P+; PowerWise: N; High-Reliability: Y; DatasheetVersion: Jun-1999; PackageVersion: revD, Feb-1987; PackageReference: M14B; PackageDescription: Molded Package, S.O., .300in Wide, 14 Lead; RoHS: Y; PinCount: 14; CompType: Switcher; Code_JEDEC: MS-013-AF; Code_IPC: SOIC127P1030-14; ComponentLink1Description: Manufacturer URL; ComponentLink1URL: http://www.national.com/; ComponentLink2Description: LM2574 Datasheet; ComponentLink2URL: http://www.national.com/ds/LM/LM2574.pdf; ComponentLink3Description: LM2574 Web Page; ComponentLink3URL: http://www.national.com/pf/LM/LM2574.html; ComponentLink4Description: M14B Package Page; ComponentLink4URL: http://www.national.com/packaging/folders/m14b.html
footprint M14B_N (SOIC, 14-Leads, Body 9x7.5mm, Pitch 1.27mm, IPC Medium Density)
footprint M14B_L (SOIC, 14-Leads, Body 9x7.5mm, Pitch 1.27mm, IPC High Density)
footprint M14B_M (SOIC, 14-Leads, Body 9x7.5mm, Pitch 1.27mm, IPC Low Density)
pins: 1 NC, 2 NC, 3 FB (in), 4 SGND (power), 5 ON/OFF (in), 6 PGND (power), 7 NC, 8 NC, 9 NC, 10 VIN (power), 11 NC, 12 OUT (power), 13 NC, 14 NC

## LM2574MX-3.3
designator U?
SIMPLE SWITCHER® 0.5A Step-Down Voltage Regulator, 14-pin Wide SOIC; PartNumber: LM2574MX-3.3; Manufacturer: National Semiconductor; PackageTopMarking: NSUZXYTTE#*LM2574M*-3.3 P+; PowerWise: N; High-Reliability: Y; DatasheetVersion: Jun-1999; PackageVersion: revD, Feb-1987; PackageReference: M14B; PackageDescription: Molded Package, S.O., .300in Wide, 14 Lead; RoHS: N; PinCount: 14; CompType: Switcher; Code_JEDEC: MS-013-AF; Code_IPC: SOIC127P1030-14; ComponentLink1Description: Manufacturer URL; ComponentLink1URL: http://www.national.com/; ComponentLink2Description: LM2574 Datasheet; ComponentLink2URL: http://www.national.com/ds/LM/LM2574.pdf; ComponentLink3Description: LM2574 Web Page; ComponentLink3URL: http://www.national.com/pf/LM/LM2574.html; ComponentLink4Description: M14B Package Page; ComponentLink4URL: http://www.national.com/packaging/folders/m14b.html
footprint M14B_N (SOIC, 14-Leads, Body 9x7.5mm, Pitch 1.27mm, IPC Medium Density)
footprint M14B_L (SOIC, 14-Leads, Body 9x7.5mm, Pitch 1.27mm, IPC High Density)
footprint M14B_M (SOIC, 14-Leads, Body 9x7.5mm, Pitch 1.27mm, IPC Low Density)
pins: 1 NC, 2 NC, 3 FB (in), 4 SGND (power), 5 ON/OFF (in), 6 PGND (power), 7 NC, 8 NC, 9 NC, 10 VIN (power), 11 NC, 12 OUT (power), 13 NC, 14 NC

## LM2574MX-3.3/NOPB
designator U?
SIMPLE SWITCHER® 0.5A Step-Down Voltage Regulator, 14-pin Wide SOIC, Pb-Free; PartNumber: LM2574MX-3.3/NOPB; Manufacturer: National Semiconductor; PackageTopMarking: NSUZXYTTE#*LM2574M*-3.3 P+; PowerWise: N; High-Reliability: Y; DatasheetVersion: Jun-1999; PackageVersion: revD, Feb-1987; PackageReference: M14B; PackageDescription: Molded Package, S.O., .300in Wide, 14 Lead; RoHS: Y; PinCount: 14; CompType: Switcher; Code_JEDEC: MS-013-AF; Code_IPC: SOIC127P1030-14; ComponentLink1Description: Manufacturer URL; ComponentLink1URL: http://www.national.com/; ComponentLink2Description: LM2574 Datasheet; ComponentLink2URL: http://www.national.com/ds/LM/LM2574.pdf; ComponentLink3Description: LM2574 Web Page; ComponentLink3URL: http://www.national.com/pf/LM/LM2574.html; ComponentLink4Description: M14B Package Page; ComponentLink4URL: http://www.national.com/packaging/folders/m14b.html
footprint M14B_N (SOIC, 14-Leads, Body 9x7.5mm, Pitch 1.27mm, IPC Medium Density)
footprint M14B_L (SOIC, 14-Leads, Body 9x7.5mm, Pitch 1.27mm, IPC High Density)
footprint M14B_M (SOIC, 14-Leads, Body 9x7.5mm, Pitch 1.27mm, IPC Low Density)
pins: 1 NC, 2 NC, 3 FB (in), 4 SGND (power), 5 ON/OFF (in), 6 PGND (power), 7 NC, 8 NC, 9 NC, 10 VIN (power), 11 NC, 12 OUT (power), 13 NC, 14 NC

## LM2574MX-5.0
designator U?
SIMPLE SWITCHER® 0.5A Step-Down Voltage Regulator, 14-pin Wide SOIC; PartNumber: LM2574MX-5.0; Manufacturer: National Semiconductor; PackageTopMarking: NSUZXYTTE#*LM2574M*-5.0 P+; PowerWise: N; High-Reliability: Y; DatasheetVersion: Jun-1999; PackageVersion: revD, Feb-1987; PackageReference: M14B; PackageDescription: Molded Package, S.O., .300in Wide, 14 Lead; RoHS: N; PinCount: 14; CompType: Switcher; Code_JEDEC: MS-013-AF; Code_IPC: SOIC127P1030-14; ComponentLink1Description: Manufacturer URL; ComponentLink1URL: http://www.national.com/; ComponentLink2Description: LM2574 Datasheet; ComponentLink2URL: http://www.national.com/ds/LM/LM2574.pdf; ComponentLink3Description: LM2574 Web Page; ComponentLink3URL: http://www.national.com/pf/LM/LM2574.html; ComponentLink4Description: M14B Package Page; ComponentLink4URL: http://www.national.com/packaging/folders/m14b.html
footprint M14B_N (SOIC, 14-Leads, Body 9x7.5mm, Pitch 1.27mm, IPC Medium Density)
footprint M14B_L (SOIC, 14-Leads, Body 9x7.5mm, Pitch 1.27mm, IPC High Density)
footprint M14B_M (SOIC, 14-Leads, Body 9x7.5mm, Pitch 1.27mm, IPC Low Density)
pins: 1 NC, 2 NC, 3 FB (in), 4 SGND (power), 5 ON/OFF (in), 6 PGND (power), 7 NC, 8 NC, 9 NC, 10 VIN (power), 11 NC, 12 OUT (power), 13 NC, 14 NC

## LM2574MX-5.0/NOPB
designator U?
SIMPLE SWITCHER® 0.5A Step-Down Voltage Regulator, 14-pin Wide SOIC, Pb-Free; PartNumber: LM2574MX-5.0/NOPB; Manufacturer: National Semiconductor; PackageTopMarking: NSUZXYTTE#*LM2574M*-5.0 P+; PowerWise: N; High-Reliability: Y; DatasheetVersion: Jun-1999; PackageVersion: revD, Feb-1987; PackageReference: M14B; PackageDescription: Molded Package, S.O., .300in Wide, 14 Lead; RoHS: Y; PinCount: 14; CompType: Switcher; Code_JEDEC: MS-013-AF; Code_IPC: SOIC127P1030-14; ComponentLink1Description: Manufacturer URL; ComponentLink1URL: http://www.national.com/; ComponentLink2Description: LM2574 Datasheet; ComponentLink2URL: http://www.national.com/ds/LM/LM2574.pdf; ComponentLink3Description: LM2574 Web Page; ComponentLink3URL: http://www.national.com/pf/LM/LM2574.html; ComponentLink4Description: M14B Package Page; ComponentLink4URL: http://www.national.com/packaging/folders/m14b.html
footprint M14B_N (SOIC, 14-Leads, Body 9x7.5mm, Pitch 1.27mm, IPC Medium Density)
footprint M14B_L (SOIC, 14-Leads, Body 9x7.5mm, Pitch 1.27mm, IPC High Density)
footprint M14B_M (SOIC, 14-Leads, Body 9x7.5mm, Pitch 1.27mm, IPC Low Density)
pins: 1 NC, 2 NC, 3 FB (in), 4 SGND (power), 5 ON/OFF (in), 6 PGND (power), 7 NC, 8 NC, 9 NC, 10 VIN (power), 11 NC, 12 OUT (power), 13 NC, 14 NC

## LM2574MX-12
designator U?
SIMPLE SWITCHER® 0.5A Step-Down Voltage Regulator, 14-pin Wide SOIC; PartNumber: LM2574MX-12; Manufacturer: National Semiconductor; PackageTopMarking: NSUZXYTTE#*LM2574M*-12 P+; PowerWise: N; High-Reliability: Y; DatasheetVersion: Jun-1999; PackageVersion: revD, Feb-1987; PackageReference: M14B; PackageDescription: Molded Package, S.O., .300in Wide, 14 Lead; RoHS: N; PinCount: 14; CompType: Switcher; Code_JEDEC: MS-013-AF; Code_IPC: SOIC127P1030-14; ComponentLink1Description: Manufacturer URL; ComponentLink1URL: http://www.national.com/; ComponentLink2Description: LM2574 Datasheet; ComponentLink2URL: http://www.national.com/ds/LM/LM2574.pdf; ComponentLink3Description: LM2574 Web Page; ComponentLink3URL: http://www.national.com/pf/LM/LM2574.html; ComponentLink4Description: M14B Package Page; ComponentLink4URL: http://www.national.com/packaging/folders/m14b.html
footprint M14B_N (SOIC, 14-Leads, Body 9x7.5mm, Pitch 1.27mm, IPC Medium Density)
footprint M14B_L (SOIC, 14-Leads, Body 9x7.5mm, Pitch 1.27mm, IPC High Density)
footprint M14B_M (SOIC, 14-Leads, Body 9x7.5mm, Pitch 1.27mm, IPC Low Density)
pins: 1 NC, 2 NC, 3 FB (in), 4 SGND (power), 5 ON/OFF (in), 6 PGND (power), 7 NC, 8 NC, 9 NC, 10 VIN (power), 11 NC, 12 OUT (power), 13 NC, 14 NC

## LM2574MX-12/NOPB
designator U?
SIMPLE SWITCHER® 0.5A Step-Down Voltage Regulator, 14-pin Wide SOIC, Pb-Free; PartNumber: LM2574MX-12/NOPB; Manufacturer: National Semiconductor; PackageTopMarking: NSUZXYTTE#*LM2574M*-12 P+; PowerWise: N; High-Reliability: Y; DatasheetVersion: Jun-1999; PackageVersion: revD, Feb-1987; PackageReference: M14B; PackageDescription: Molded Package, S.O., .300in Wide, 14 Lead; RoHS: Y; PinCount: 14; CompType: Switcher; Code_JEDEC: MS-013-AF; Code_IPC: SOIC127P1030-14; ComponentLink1Description: Manufacturer URL; ComponentLink1URL: http://www.national.com/; ComponentLink2Description: LM2574 Datasheet; ComponentLink2URL: http://www.national.com/ds/LM/LM2574.pdf; ComponentLink3Description: LM2574 Web Page; ComponentLink3URL: http://www.national.com/pf/LM/LM2574.html; ComponentLink4Description: M14B Package Page; ComponentLink4URL: http://www.national.com/packaging/folders/m14b.html
footprint M14B_N (SOIC, 14-Leads, Body 9x7.5mm, Pitch 1.27mm, IPC Medium Density)
footprint M14B_L (SOIC, 14-Leads, Body 9x7.5mm, Pitch 1.27mm, IPC High Density)
footprint M14B_M (SOIC, 14-Leads, Body 9x7.5mm, Pitch 1.27mm, IPC Low Density)
pins: 1 NC, 2 NC, 3 FB (in), 4 SGND (power), 5 ON/OFF (in), 6 PGND (power), 7 NC, 8 NC, 9 NC, 10 VIN (power), 11 NC, 12 OUT (power), 13 NC, 14 NC

## LM2574MX-ADJ
designator U?
SIMPLE SWITCHER® 0.5A Step-Down Voltage Regulator, 14-pin Wide SOIC; PartNumber: LM2574MX-ADJ; Manufacturer: National Semiconductor; PackageTopMarking: NSUZXYTTE#*LM2574M*-ADJ P+; PowerWise: N; High-Reliability: Y; DatasheetVersion: Jun-1999; PackageVersion: revD, Feb-1987; PackageReference: M14B; PackageDescription: Molded Package, S.O., .300in Wide, 14 Lead; RoHS: N; PinCount: 14; CompType: Switcher; Code_JEDEC: MS-013-AF; Code_IPC: SOIC127P1030-14; ComponentLink1Description: Manufacturer URL; ComponentLink1URL: http://www.national.com/; ComponentLink2Description: LM2574 Datasheet; ComponentLink2URL: http://www.national.com/ds/LM/LM2574.pdf; ComponentLink3Description: LM2574 Web Page; ComponentLink3URL: http://www.national.com/pf/LM/LM2574.html; ComponentLink4Description: M14B Package Page; ComponentLink4URL: http://www.national.com/packaging/folders/m14b.html
footprint M14B_N (SOIC, 14-Leads, Body 9x7.5mm, Pitch 1.27mm, IPC Medium Density)
footprint M14B_L (SOIC, 14-Leads, Body 9x7.5mm, Pitch 1.27mm, IPC High Density)
footprint M14B_M (SOIC, 14-Leads, Body 9x7.5mm, Pitch 1.27mm, IPC Low Density)
pins: 1 NC, 2 NC, 3 FB (in), 4 SGND (power), 5 ON/OFF (in), 6 PGND (power), 7 NC, 8 NC, 9 NC, 10 VIN (power), 11 NC, 12 OUT (power), 13 NC, 14 NC

## LM2574MX-ADJ/NOPB
designator U?
SIMPLE SWITCHER® 0.5A Step-Down Voltage Regulator, 14-pin Wide SOIC, Pb-Free; PartNumber: LM2574MX-ADJ/NOPB; Manufacturer: National Semiconductor; PackageTopMarking: NSUZXYTTE#*LM2574M*-ADJ P+; PowerWise: N; High-Reliability: Y; DatasheetVersion: Jun-1999; PackageVersion: revD, Feb-1987; PackageReference: M14B; PackageDescription: Molded Package, S.O., .300in Wide, 14 Lead; RoHS: Y; PinCount: 14; CompType: Switcher; Code_JEDEC: MS-013-AF; Code_IPC: SOIC127P1030-14; ComponentLink1Description: Manufacturer URL; ComponentLink1URL: http://www.national.com/; ComponentLink2Description: LM2574 Datasheet; ComponentLink2URL: http://www.national.com/ds/LM/LM2574.pdf; ComponentLink3Description: LM2574 Web Page; ComponentLink3URL: http://www.national.com/pf/LM/LM2574.html; ComponentLink4Description: M14B Package Page; ComponentLink4URL: http://www.national.com/packaging/folders/m14b.html
footprint M14B_N (SOIC, 14-Leads, Body 9x7.5mm, Pitch 1.27mm, IPC Medium Density)
footprint M14B_L (SOIC, 14-Leads, Body 9x7.5mm, Pitch 1.27mm, IPC High Density)
footprint M14B_M (SOIC, 14-Leads, Body 9x7.5mm, Pitch 1.27mm, IPC Low Density)
pins: 1 NC, 2 NC, 3 FB (in), 4 SGND (power), 5 ON/OFF (in), 6 PGND (power), 7 NC, 8 NC, 9 NC, 10 VIN (power), 11 NC, 12 OUT (power), 13 NC, 14 NC

## LM2574N-3.3
designator U?
SIMPLE SWITCHER® 0.5A Step-Down Voltage Regulator, 8-pin MDIP; PartNumber: LM2574N-3.3; Manufacturer: National Semiconductor; PackageTopMarking: NSUZXYTTE#*LM2574N*-3.3 P+; PowerWise: N; High-Reliability: Y; DatasheetVersion: Jun-1999; PackageVersion: revG, May-2006; PackageReference: N08E; PackageDescription: MDIP, .365 x .250 x .130in, 8 Lead, .100in Pitch; RoHS: N; PinCount: 8; CompType: Switcher; Code_JEDEC: MS-001-BA; ComponentLink1Description: Manufacturer URL; ComponentLink1URL: http://www.national.com/; ComponentLink2Description: LM2574 Datasheet; ComponentLink2URL: http://www.national.com/ds/LM/LM2574.pdf; ComponentLink3Description: LM2574 Web Page; ComponentLink3URL: http://www.national.com/pf/LM/LM2574.html; ComponentLink4Description: N08E Package Page; ComponentLink4URL: http://www.national.com/packaging/folders/n08e.html
footprint N08E (DIP, 8-Leads, Row Spacing 7.62mm, Pitch 2.54mm, Body 9.91x6.35mm)
pins: 1 FB (in), 2 SGND (power), 3 ON/OFF (in), 4 PGND (power), 5 VIN (power), 6 NC, 7 OUT (power), 8 NC

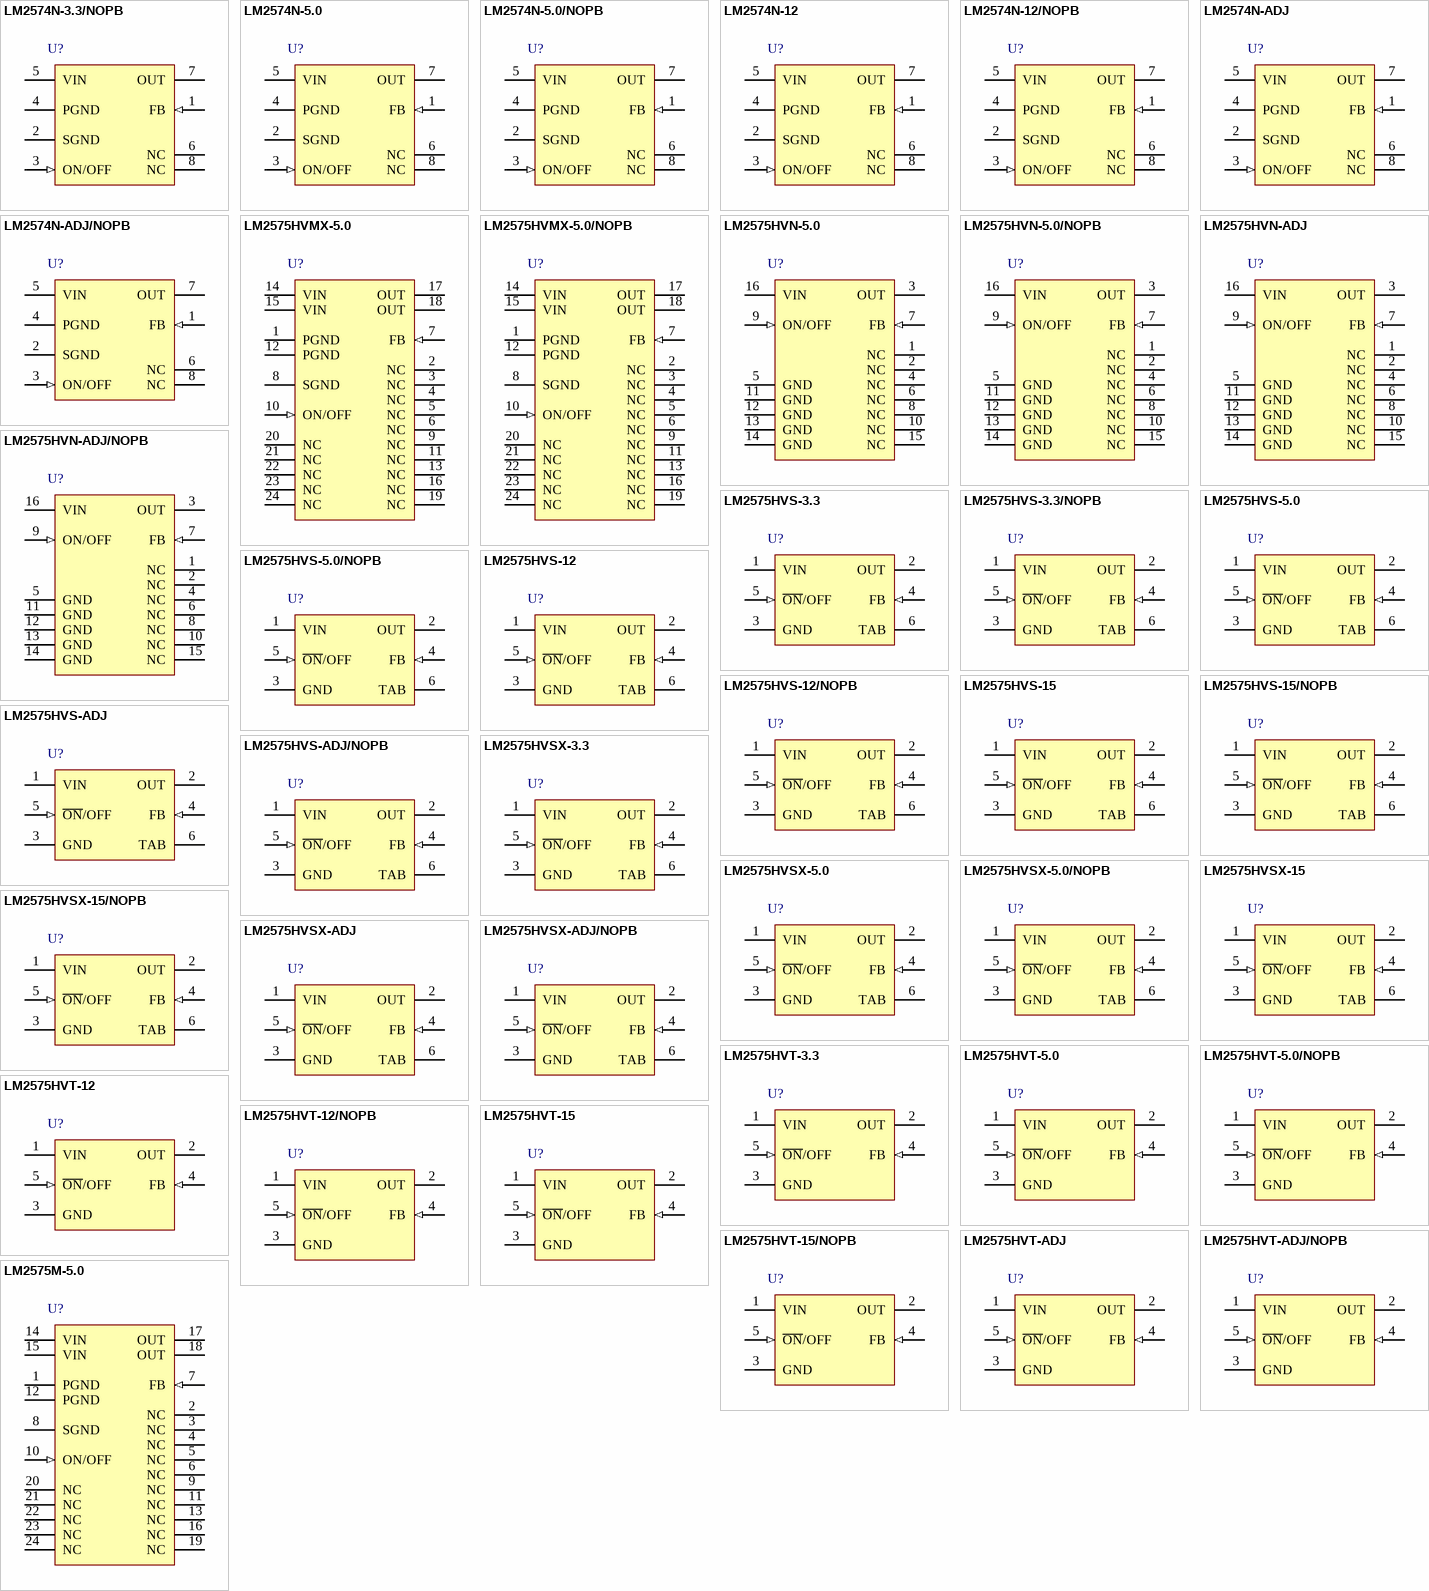
[diagram p2: symbols LM2574N-3.3/NOPB to LM2575M-5.0]

## LM2574N-3.3/NOPB
designator U?
SIMPLE SWITCHER® 0.5A Step-Down Voltage Regulator, 8-pin MDIP, Pb-Free; PartNumber: LM2574N-3.3/NOPB; Manufacturer: National Semiconductor; PackageTopMarking: NSUZXYTTE#*LM2574N*-3.3 P+; PowerWise: N; High-Reliability: Y; DatasheetVersion: Jun-1999; PackageVersion: revG, May-2006; PackageReference: N08E; PackageDescription: MDIP, .365 x .250 x .130in, 8 Lead, .100in Pitch; RoHS: Y; PinCount: 8; CompType: Switcher; Code_JEDEC: MS-001-BA; ComponentLink1Description: Manufacturer URL; ComponentLink1URL: http://www.national.com/; ComponentLink2Description: LM2574 Datasheet; ComponentLink2URL: http://www.national.com/ds/LM/LM2574.pdf; ComponentLink3Description: LM2574 Web Page; ComponentLink3URL: http://www.national.com/pf/LM/LM2574.html; ComponentLink4Description: N08E Package Page; ComponentLink4URL: http://www.national.com/packaging/folders/n08e.html
footprint N08E (DIP, 8-Leads, Row Spacing 7.62mm, Pitch 2.54mm, Body 9.91x6.35mm)
pins: 1 FB (in), 2 SGND (power), 3 ON/OFF (in), 4 PGND (power), 5 VIN (power), 6 NC, 7 OUT (power), 8 NC

## LM2574N-5.0
designator U?
SIMPLE SWITCHER® 0.5A Step-Down Voltage Regulator, 8-pin MDIP; PartNumber: LM2574N-5.0; Manufacturer: National Semiconductor; PackageTopMarking: NSUZXYTTE#*LM2574N*-5.0 P+; PowerWise: N; High-Reliability: Y; DatasheetVersion: Jun-1999; PackageVersion: revG, May-2006; PackageReference: N08E; PackageDescription: MDIP, .365 x .250 x .130in, 8 Lead, .100in Pitch; RoHS: N; PinCount: 8; CompType: Switcher; Code_JEDEC: MS-001-BA; ComponentLink1Description: Manufacturer URL; ComponentLink1URL: http://www.national.com/; ComponentLink2Description: LM2574 Datasheet; ComponentLink2URL: http://www.national.com/ds/LM/LM2574.pdf; ComponentLink3Description: LM2574 Web Page; ComponentLink3URL: http://www.national.com/pf/LM/LM2574.html; ComponentLink4Description: N08E Package Page; ComponentLink4URL: http://www.national.com/packaging/folders/n08e.html
footprint N08E (DIP, 8-Leads, Row Spacing 7.62mm, Pitch 2.54mm, Body 9.91x6.35mm)
pins: 1 FB (in), 2 SGND (power), 3 ON/OFF (in), 4 PGND (power), 5 VIN (power), 6 NC, 7 OUT (power), 8 NC

## LM2574N-5.0/NOPB
designator U?
SIMPLE SWITCHER® 0.5A Step-Down Voltage Regulator, 8-pin MDIP, Pb-Free; PartNumber: LM2574N-5.0/NOPB; Manufacturer: National Semiconductor; PackageTopMarking: NSUZXYTTE#*LM2574N*-5.0 P+; PowerWise: N; High-Reliability: Y; DatasheetVersion: Jun-1999; PackageVersion: revG, May-2006; PackageReference: N08E; PackageDescription: MDIP, .365 x .250 x .130in, 8 Lead, .100in Pitch; RoHS: Y; PinCount: 8; CompType: Switcher; Code_JEDEC: MS-001-BA; ComponentLink1Description: Manufacturer URL; ComponentLink1URL: http://www.national.com/; ComponentLink2Description: LM2574 Datasheet; ComponentLink2URL: http://www.national.com/ds/LM/LM2574.pdf; ComponentLink3Description: LM2574 Web Page; ComponentLink3URL: http://www.national.com/pf/LM/LM2574.html; ComponentLink4Description: N08E Package Page; ComponentLink4URL: http://www.national.com/packaging/folders/n08e.html
footprint N08E (DIP, 8-Leads, Row Spacing 7.62mm, Pitch 2.54mm, Body 9.91x6.35mm)
pins: 1 FB (in), 2 SGND (power), 3 ON/OFF (in), 4 PGND (power), 5 VIN (power), 6 NC, 7 OUT (power), 8 NC